# Altium footprint library 1984675.PcbLib: 1 footprints
Each footprint in its own frame and in the unit in brackets; x right, y up, seen from the top. Pads: shape width x height; smd on the part's side, far side on the other; paste and mask are expansions set on the pad; w line width, h text height; cw(c..) or ccw(c..) is an arc to the next point about the centre after c.
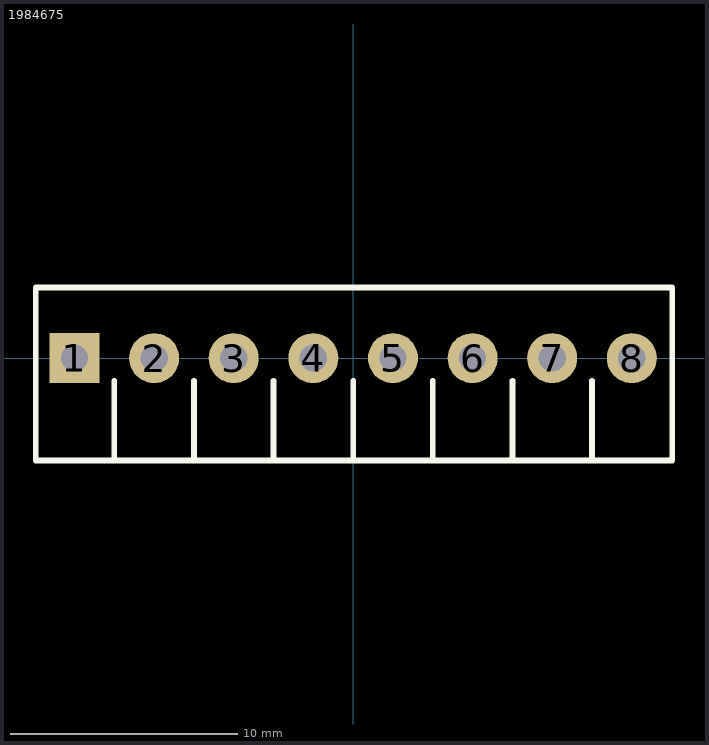
[diagram p0: the footprint, top view; thin cyan lines are the x and y axes]

## 1984675 [mm] "CONN TERM BLOCK T/H 8POS 3.5MM"
pads (8):
  rect 2.2x2.2 hole 1.2: 1(-12.25,0)
  round 2.2 hole 1.2: 2(-8.75,0) 3(-5.25,0) 4(-1.75,0) 5(1.75,0) 6(5.25,0) 7(8.75,0) 8(12.25,0)
Top Overlay:
  lines w0.254: -10.5,-4.5 -10.5,-1 ; -7,-4.5 -7,-1 ; -3.5,-4.5 -3.5,-1 ; 0,-4.5 0,-1 ; 3.5,-4.5 3.5,-1 ; 7,-4.5 7,-1 ; 10.5,-4.5 10.5,-1 ; -13.95,-4.5 14.025,-4.5 14.025,3.1 -13.95,3.1 -13.95,-4.5
3D body "1984675.stp": height 9, standoff -4.5, extent -13.995,-4.5 14.575,3.1